# Altium schematic symbol library SMD Resistors 0603.SchLib: 112 symbols (part 1 of 2)
Pins are listed as number, name and electrical type; pins without a type are passive.

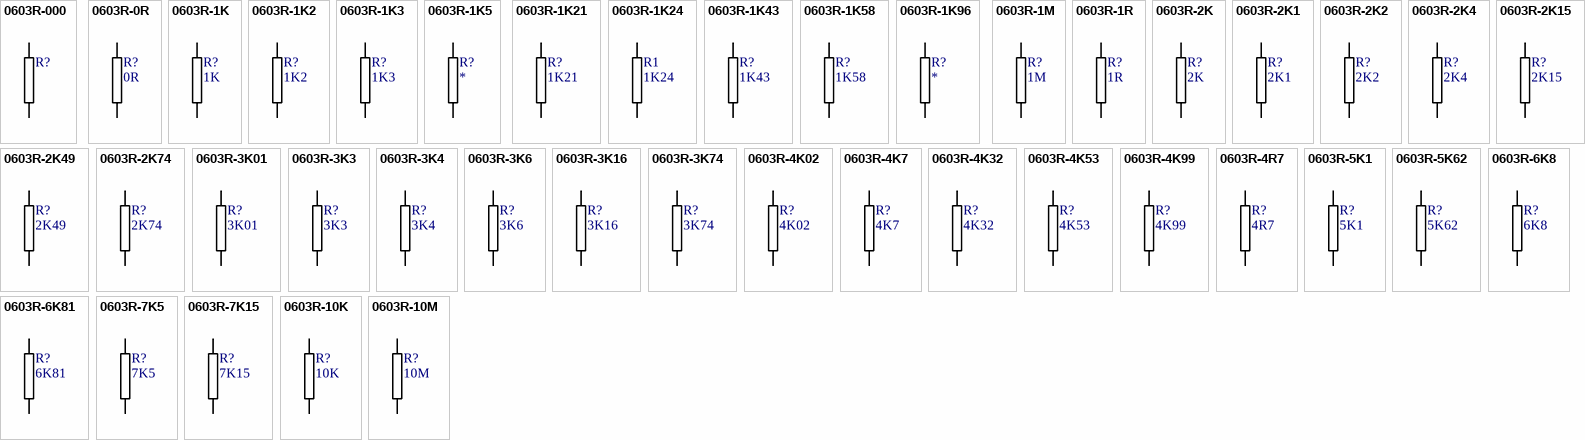
[diagram p0: symbols 0603R-000 to 0603R-10M]

## 0603R-000
designator R?
GENERIC RESISTOR 0603
footprint 0603R-GENERIC (RESISTOR 0603)
footprint 0603R-NI (RESISTOR 0603 NON INSTALLED)
pins: 1, 2

## 0603R-0R
designator R?, comment 0R
GENERIC JUMPER 0603; Manufacturer: Stackpole Electronics Inc; Manufacturer Part Number: RMC 1/16 0 G; Reel: R26; Supplier 1: Digi-Key; Supplier Part Number 1: RMCF0603ZT0R00TR-ND
footprint 0603R-0R (RESISTOR 0603)
footprint 0603R-NI (RESISTOR 0603 NON INSTALLED)
pins: 1, 2

## 0603R-1K
designator R?, comment 1K
GENERIC RESISTOR 0603; Manufacturer Part Number: RMCF 1/16 1K 1% R; Manufacturer: Stackpole Electronics Inc; Reel: R14; Supplier 1: Digi-Key; Supplier Part Number 1: RMCF0603FT1K00TR-ND
footprint 0603R-1k (RESISTOR 0603)
pins: 1, 2

## 0603R-1K2
designator R?, comment 1K2
GENERIC RESISTOR 0603; Manufacturer Part Number: RMCF 1/16 1.2K 1% R; Manufacturer: Stackpole Electronics Inc; Description: RES 1.2K OHM 1/10W 1% 0603 SMD; Reel: R75; Supplier 1: Digi-Key; Supplier Part Number 1: RMCF0603FT1K20TR-ND
footprint 0603R-GENERIC (RESISTOR 0603)
pins: 1, 2

## 0603R-1K3
designator R?, comment 1K3
GENERIC RESISTOR 0603; Supplier 1: Digi-Key; Supplier Part Number 1: RNCP0603FTD1K30CT-ND
footprint 0603R-GENERIC (RESISTOR 0603)
footprint 0603R-NI (RESISTOR 0603 NON INSTALLED)
pins: 1, 2

## 0603R-1K5
designator R?
GENERIC RESISTOR 0603; Manufacturer Part Number: RMCF 1/16 15K 1% R; Manufacturer: Stackpole Electronics Inc; Tolerance: ±1%; Resistance In Ohms: 15.0K; Power (Watts): 0.1W, 1/10W; Temperature Coefficient: ±100ppm/°C; Description: RES 15K OHM 1/10W 1% 0603 SMD; Supplier 1: Digi-Key; Supplier Part Number 1: RMCF1/1615KFRTR-ND; Supplier: Digi-Key; Supplier Part Number: RMCF1/1615KFRTR-ND; Packaging: Tape & Reel (TR); Category: Resistors; Case: 0603 (1608 metric); Composition: Thick Film; Lead Style: Surface Mount (SMD - SMT); RoHS: RoHS Compliant
footprint 0603R-1k5 (RESISTOR 0603)
pins: 1, 2

## 0603R-1K21
designator R?, comment 1K21
GENERIC RESISTOR 0603; Manufacturer Part Number: RMCF 1/16 1.21K 1% R; Manufacturer: Stackpole Electronics Inc; Temperature Coefficient: ±100ppm/°C; Resistance In Ohms: 1.21K; Power (Watts): 0.1W, 1/10W; Tolerance: ±1%; Description: RES 1.21K OHM 1/10W 1% 0603 SMD; Supplier 1: Digi-Key; Supplier Part Number 1: RMCF1/161.21KFRTR-ND; Composition: Thick Film; Packaging: Tape & Reel (TR); RoHS: RoHS Compliant; Category: Resistors; Case: 0603 (1608 metric); Lead Style: Surface Mount (SMD - SMT); Supplier: Digi-Key; Supplier Part Number: RMCF1/161.21KFRTR-ND
footprint 0603R-GENERIC (RESISTOR 0603)
footprint 0603R-NI (RESISTOR 0603 NON INSTALLED)
pins: 1, 2

## 0603R-1K24
designator R1, comment 1K24
GENERIC RESISTOR 0603; Supplier 1: Digi-Key; Supplier Part Number 1: RMCF0603FT1K24CT-ND
footprint 0603R-GENERIC (RESISTOR 0603)
pins: 1, 2

## 0603R-1K43
designator R?, comment 1K43
GENERIC RESISTOR 0603; Manufacturer Part Number: RMC 1/16 1.43K 1% R; Manufacturer: Stackpole Electronics Inc; Description: RES TF 1/10W 1.43K OHM 1% 0603; Tolerance: ±1%; Temperature Coefficient: ±100ppm/°C; Power (Watts): 0.1W, 1/10W; Resistance In Ohms: 1.43K; Supplier 1: Digi-Key; Supplier Part Number 1: RMC1/161.43KFR-ND; Supplier: Digi-Key; Category: Resistors; Supplier Part Number: RMC1/161.43KFR-ND; Lead Style: Surface Mount (SMD - SMT); Packaging: Tape & Reel (TR); Composition: Thick Film; RoHS: RoHS non-compliant; Case: 0603 (1608 metric)
footprint 0603R-GENERIC (RESISTOR 0603)
footprint 0603R-NI (RESISTOR 0603 NON INSTALLED)
pins: 1, 2

## 0603R-1K58
designator R?, comment 1K58
GENERIC RESISTOR 0603; REEL: R31; Supplier 1: Digi-Key; Supplier Part Number 1: 311-1.58KHRTR-ND
footprint 0603R-1k5 (RESISTOR 0603)
pins: 1, 2

## 0603R-1K96
designator R?
GENERIC RESISTOR 0603; Manufacturer Part Number: RMCF 1/16 15K 1% R; Manufacturer: Stackpole Electronics Inc; Tolerance: ±1%; Resistance In Ohms: 15.0K; Power (Watts): 0.1W, 1/10W; Temperature Coefficient: ±100ppm/°C; Description: RES 15K OHM 1/10W 1% 0603 SMD; Supplier 1: Digi-Key; Supplier Part Number 1: RMCF1/1615KFRTR-ND; Supplier: Digi-Key; Supplier Part Number: RMCF1/1615KFRTR-ND; Packaging: Tape & Reel (TR); Category: Resistors; Case: 0603 (1608 metric); Composition: Thick Film; Lead Style: Surface Mount (SMD - SMT); RoHS: RoHS Compliant
footprint 0603R-GENERIC (RESISTOR 0603)
pins: 1, 2

## 0603R-1M
designator R?, comment 1M
GENERIC RESISTOR 0603; Manufacturer: Stackpole Electronics Inc; Manufacturer Part Number: RMCF 1/16 1M 1% R; Description: RES 1M OHM 1/10W 1% 0603 SMD; Power (Watts): 0.1W, 1/10W; Temperature Coefficient: ±100ppm/°C; Resistance In Ohms: 1.00M; Tolerance: ±1%; REEL: R51; Supplier: Digi-Key; Supplier Part Number: RMCF1/161MFRTR-ND; Category: Resistors; Lead Style: Surface Mount (SMD - SMT); Case: 0603 (1608 metric); RoHS: RoHS Compliant; Composition: Thick Film; Packaging: Tape & Reel (TR); Supplier 1: Digi-Key; Supplier Part Number 1: RMCF0603FT1M00TR-ND
footprint 0603R-GENERIC (RESISTOR 0603)
footprint 0603R-NI (RESISTOR 0603 NON INSTALLED)
pins: 1, 2

## 0603R-1R
designator R?, comment 1R
GENERIC RESISTOR 0603; Manufacturer Part Number: CSR 1/8 1 1% I; Manufacturer: Stackpole Electronics Inc; Description: RES 1 OHM 1/8W 1% 0603 SMD; Temperature Coefficient: ±300ppm/°C; Resistance In Ohms: 1.00; Power (Watts): 0.125W, 1/8W; Tolerance: ±1%; REEL: R50; Lead Style: Surface Mount (SMD - SMT); Supplier: Digi-Key; Supplier Part Number: CSR1/81FITR-ND; Composition: Current Sense, Thick Film; Category: Resistors; Packaging: Tape & Reel (TR); RoHS: RoHS Compliant; Case: 0603 (1608 metric); Supplier 1: Digi-Key; Supplier Part Number 1: CSR0603FK1R00DKR-ND
footprint 0603R-GENERIC (RESISTOR 0603)
footprint 0603R-NI (RESISTOR 0603 NON INSTALLED)
pins: 1, 2

## 0603R-2K
designator R?, comment 2K
GENERIC RESISTOR 0603; Manufacturer Part Number: RMCF 1/16 2K 1% R; Manufacturer: Stackpole Electronics Inc; Temperature Coefficient: ±100ppm/°C; Power (Watts): 0.1W, 1/10W; Tolerance: ±1%; Description: RES 2K OHM 1/10W 1% 0603 SMD; Resistance In Ohms: 2.00K; Reel: R9; Supplier 1: Digi-Key; Supplier Part Number 1: RMCF1/162KFRTR-ND; Supplier: Digi-Key; Supplier Part Number: RMCF1/162KFRTR-ND; RoHS: RoHS Compliant; Composition: Thick Film; Case: 0603 (1608 metric); Packaging: Tape & Reel (TR); Lead Style: Surface Mount (SMD - SMT); Category: Resistors
footprint 0603R-GENERIC (RESISTOR 0603)
pins: 1, 2

## 0603R-2K1
designator R?, comment 2K1
GENERIC RESISTOR 0603; Manufacturer Part Number: RMC 1/16 2.1K 1% R; Manufacturer: Stackpole Electronics Inc; Description: RES TF 1/10W 2.1K OHM 1% 0603; Reel: R76; Supplier 1: Digi-Key; Supplier Part Number 1: RMCF0603FT2K10-ND
footprint 0603R-GENERIC (RESISTOR 0603)
pins: 1, 2

## 0603R-2K2
designator R?, comment 2K2
GENERIC RESISTOR 0603; Manufacturer Part Number: RMC 1/16 2.2K 1% R; Manufacturer: Stackpole Electronics Inc; Description: RES TF 1/10W 2.2K OHM 1% 0603; REEL: R88; Supplier 1: Digi-Key; Supplier Part Number 1: RMCF0603FT2K20TR-ND
footprint 0603R-2K2 (RESISTOR 0603)
pins: 1, 2

## 0603R-2K4
designator R?, comment 2K4
GENERIC RESISTOR 0603; REEL: R34; Supplier 1: Digi-Key; Supplier Part Number 1: RMCF0603FT2K40TR-ND
footprint 0603R-GENERIC (RESISTOR 0603)
footprint 0603R-NI (RESISTOR 0603 NON INSTALLED)
pins: 1, 2

## 0603R-2K15
designator R?, comment 2K15
GENERIC RESISTOR 0603; Supplier 1: Digi-Key; Supplier Part Number 1: RMCF0603FG2K15-ND
footprint 0603R-GENERIC (RESISTOR 0603)
footprint 0603R-NI (RESISTOR 0603 NON INSTALLED)
pins: 1, 2

## 0603R-2K49
designator R?, comment 2K49
GENERIC RESISTOR 0603; Manufacturer: Stackpole Electronics Inc; Manufacturer Part Number: RMCF 1/16 2.49K 1% R; Description: RES 2.49K OHM 1/10W 1% 0603 SMD; Power (Watts): 0.1W, 1/10W; Tolerance: ±1%; Temperature Coefficient: ±100ppm/°C; Resistance In Ohms: 2.49K; REEL: R83; Supplier Part Number: RMCF1/162.49KFRTR-ND; Category: Resistors; Supplier: Digi-Key; Packaging: Tape & Reel (TR); Composition: Thick Film; Lead Style: Surface Mount (SMD - SMT); RoHS: RoHS Compliant; Case: 0603 (1608 metric); Supplier 1: Digi-Key; Supplier Part Number 1: RMCF0603FT2K49TR-ND
footprint 0603R-GENERIC (RESISTOR 0603)
footprint 0603R-NI (RESISTOR 0603 NON INSTALLED)
pins: 1, 2

## 0603R-2K74
designator R?, comment 2K74
GENERIC RESISTOR 0603; Description: RES 2.74K OHM 1/10W 1% 0603 SMD; REEL: R53; Supplier 1: Digi-Key; Supplier Part Number 1: RMCF1/162.74KFRTR-ND
footprint 0603R-generic (RESISTOR 0603)
pins: 1, 2

## 0603R-3K01
designator R?, comment 3K01
GENERIC RESISTOR 0603; Manufacturer: Stackpole Electronics Inc; Manufacturer Part Number: RMCF 1/16 3.01K 1% R; Description: RES 3.01K OHM 1/10W 1% 0603 SMD; Resistance In Ohms: 3.01K; Temperature Coefficient: ±100ppm/°C; Tolerance: ±1%; Power (Watts): 0.1W, 1/10W; REEL: R35; RoHS: RoHS Compliant; Packaging: Tape & Reel (TR); Supplier Part Number: RMCF1/163.01KFRTR-ND; Lead Style: Surface Mount (SMD - SMT); Composition: Thick Film; Case: 0603 (1608 metric); Category: Resistors; Supplier: Digi-Key; Supplier 1: Digi-Key; Supplier Part Number 1: RMCF0603FT3K01TR-ND
footprint 0603R-GENERIC (RESISTOR 0603)
footprint 0603R-NI (RESISTOR 0603 NON INSTALLED)
pins: 1, 2

## 0603R-3K3
designator R?, comment 3K3
GENERIC RESISTOR 0603; Supplier 1: Digi-Key; Supplier Part Number 1: RMCF0603FT3K30CT-ND
footprint 0603R-GENERIC (RESISTOR 0603)
pins: 1, 2

## 0603R-3K4
designator R?, comment 3K4
GENERIC RESISTOR 0603; Manufacturer Part Number: RMCF 1/16 3.4K 1% R; Manufacturer: Stackpole Electronics Inc; Description: RES 3.4K OHM 1/10W 1% 0603 SMD; Reel: R77; Supplier 1: Digi-Key; Supplier Part Number 1: RMCF0603FT3K40TR-ND
footprint 0603R-GENERIC (RESISTOR 0603)
pins: 1, 2

## 0603R-3K6
designator R?, comment 3K6
GENERIC RESISTOR 0603; Manufacturer: Stackpole Electronics Inc; Manufacturer Part Number: RMC 1/16 3.6K 5% R; Description: RES TF 1/10W 3.6K OHM 5% 0603; Supplier 1: Digi-Key; Supplier Part Number 1: RMC1/163.6KJR-ND
footprint 0603R-GENERIC (RESISTOR 0603)
pins: 1, 2

## 0603R-3K16
designator R?, comment 3K16
GENERIC RESISTOR 0603; Supplier 1: Digi-Key; Supplier Part Number 1: RMCF0603FT3K16TR-ND
footprint 0603R-GENERIC (RESISTOR 0603)
footprint 0603R-NI (RESISTOR 0603 NON INSTALLED)
pins: 1, 2

## 0603R-3K74
designator R?, comment 3K74
GENERIC RESISTOR 0603; Manufacturer Part Number: RMCF 1/16 3.74K 1% R; Manufacturer: Stackpole Electronics Inc; Resistance In Ohms: 3.74K; Temperature Coefficient: ±100ppm/°C; Description: RES 3.74K OHM 1/10W 1% 0603 SMD; Power (Watts): 0.1W, 1/10W; Tolerance: ±1%; Supplier 1: Digi-Key; Supplier Part Number 1: RMCF1/163.74KFR-ND; Category: Resistors; Packaging: Tape & Reel (TR); RoHS: RoHS Compliant; Lead Style: Surface Mount (SMD - SMT); Composition: Thick Film; Case: 0603 (1608 metric); Supplier Part Number: RMCF1/163.74KFR-ND; Supplier: Digi-Key
footprint 0603R-GENERIC (RESISTOR 0603)
footprint 0603R-NI (RESISTOR 0603 NON INSTALLED)
pins: 1, 2

## 0603R-4K02
designator R?, comment 4K02
GENERIC RESISTOR 0603; Manufacturer: Stackpole Electronics Inc; Manufacturer Part Number: RMCF 1/16 4.02K 1% R; Tolerance: ±1%; Power (Watts): 0.1W, 1/10W; Temperature Coefficient: ±100ppm/°C; Description: RES 4.02K OHM 1/10W 1% 0603 SMD; Resistance In Ohms: 4.02K; REEL: R38; Composition: Thick Film; Supplier Part Number: RMCF1/164.02KFRTR-ND; Supplier: Digi-Key; Case: 0603 (1608 metric); Packaging: Tape & Reel (TR); RoHS: RoHS Compliant; Category: Resistors; Lead Style: Surface Mount (SMD - SMT); Supplier 1: Digi-Key; Supplier Part Number 1: RMCF0603FT4K02TR-ND
footprint 0603R-GENERIC (RESISTOR 0603)
footprint 0603R-NI (RESISTOR 0603 NON INSTALLED)
pins: 1, 2

## 0603R-4K7
designator R?, comment 4K7
GENERIC RESISTOR 0603; Manufacturer: Stackpole Electronics Inc; Manufacturer Part Number: RMCF 1/16 4.7K 1% R; Description: RES 4.7K OHM 1/10W 1% 0603 SMD; Reel: R23; Supplier 1: Digi-Key; Supplier Part Number 1: RMCF0603FT4K70TR-ND
footprint 0603R-4K7 (RESISTOR 0603)
pins: 1, 2

## 0603R-4K32
designator R?, comment 4K32
GENERIC RESISTOR 0603; Supplier 1: Digi-Key; Supplier Part Number 1: RMCF0603FT4K32TR-ND
footprint 0603R-GENERIC (RESISTOR 0603)
footprint 0603R-NI (RESISTOR 0603 NON INSTALLED)
pins: 1, 2

## 0603R-4K53
designator R?, comment 4K53
GENERIC RESISTOR 0603; Manufacturer Part Number: RMCF 1/16 4.53K 1% R; Manufacturer: Stackpole Electronics Inc; Description: RES 4.53K OHM 1/10W 1% 0603 SMD; Temperature Coefficient: ±100ppm/°C; Power (Watts): 0.1W, 1/10W; Resistance In Ohms: 4.53K; Tolerance: ±1%; Supplier 1: Digi-Key; Supplier Part Number 1: RMCF1/164.53KFRTR-ND; RoHS: RoHS Compliant; Composition: Thick Film; Lead Style: Surface Mount (SMD - SMT); Category: Resistors; Supplier Part Number: RMCF1/164.53KFRTR-ND; Supplier: Digi-Key; Packaging: Tape & Reel (TR); Case: 0603 (1608 metric)
footprint 0603R-GENERIC (RESISTOR 0603)
footprint 0603R-NI (RESISTOR 0603 NON INSTALLED)
pins: 1, 2

## 0603R-4K99
designator R?, comment 4K99
GENERIC RESISTOR 0603; Supplier 1: Digi-Key; Supplier Part Number 1: RMCF0603FT4K99TR-ND
footprint 0603R-GENERIC (RESISTOR 0603)
footprint 0603R-NI (RESISTOR 0603 NON INSTALLED)
pins: 1, 2

## 0603R-4R7
designator R?, comment 4R7
GENERIC RESISTOR 0603; Manufacturer: Stackpole Electronics Inc; Manufacturer Part Number: RMC 1/16 4.7 5% G; Description: RES TF 1/10W 4.7 OHM 5% 0603; Supplier 1: Digi-Key; Supplier Part Number 1: RMC1/164.7JG-ND
footprint 0603R-GENERIC (RESISTOR 0603)
pins: 1, 2

## 0603R-5K1
designator R?, comment 5K1
GENERIC RESISTOR 0603; Manufacturer Part Number: RMCF 1/16 15K 1% R; Manufacturer: Stackpole Electronics Inc; Tolerance: ±1%; Resistance In Ohms: 15.0K; Power (Watts): 0.1W, 1/10W; Temperature Coefficient: ±100ppm/°C; Description: RES 15K OHM 1/10W 1% 0603 SMD; Supplier 1: Digi-Key; Supplier Part Number 1: RMCF1/1615KFRTR-ND; Supplier: Digi-Key; Supplier Part Number: RMCF1/1615KFRTR-ND; Packaging: Tape & Reel (TR); Category: Resistors; Case: 0603 (1608 metric); Composition: Thick Film; Lead Style: Surface Mount (SMD - SMT); RoHS: RoHS Compliant
footprint 0603R-GENERIC (RESISTOR 0603)
pins: 1, 2

## 0603R-5K62
designator R?, comment 5K62
GENERIC RESISTOR 0603; REEL: R39; Supplier 1: Digi-Key; Supplier Part Number 1: RMCF0603FT5K62TR-ND
footprint 0603R-GENERIC (RESISTOR 0603)
pins: 1, 2

## 0603R-6K8
designator R?, comment 6K8
GENERIC RESISTOR 0603; Manufacturer Part Number: RMCF 1/16 6.8K 1% R; Manufacturer: Stackpole Electronics Inc; Temperature Coefficient: ±100ppm/°C; Power (Watts): 0.1W, 1/10W; Tolerance: ±1%; Resistance In Ohms: 6.80K; Description: RES 6.8K OHM 1/10W 1% 0603 SMD; Supplier 1: Digi-Key; Supplier Part Number 1: RMCF1/166.8KFRTR-ND; Lead Style: Surface Mount (SMD - SMT); Supplier: Digi-Key; Packaging: Tape & Reel (TR); RoHS: RoHS Compliant; Case: 0603 (1608 metric); Category: Resistors; Composition: Thick Film; Supplier Part Number: RMCF1/166.8KFRTR-ND
footprint 0603R-GENERIC (RESISTOR 0603)
footprint 0603R-NI (RESISTOR 0603 NON INSTALLED)
pins: 1, 2

## 0603R-6K81
designator R?, comment 6K81
GENERIC RESISTOR 0603; Manufacturer Part Number: RMCF 1/16 6.81K 1% R; Manufacturer: Stackpole Electronics Inc; Power (Watts): 0.1W, 1/10W; Resistance In Ohms: 6.81K; Description: RES 6.81K OHM 1/10W 1% 0603 SMD; Temperature Coefficient: ±100ppm/°C; Tolerance: ±1%; Supplier 1: Digi-Key; Supplier Part Number 1: RMCF1/166.81KFRTR-ND; Category: Resistors; RoHS: RoHS Compliant; Supplier Part Number: RMCF1/166.81KFRTR-ND; Composition: Thick Film; Supplier: Digi-Key; Case: 0603 (1608 metric); Packaging: Tape & Reel (TR); Lead Style: Surface Mount (SMD - SMT)
footprint 0603R-GENERIC (RESISTOR 0603)
footprint 0603R-NI (RESISTOR 0603 NON INSTALLED)
pins: 1, 2

## 0603R-7K5
designator R?, comment 7K5
GENERIC RESISTOR 0603; Supplier 1: Digi-Key; Supplier Part Number 1: RMCF0603JT7K50DKR-ND
footprint 0603R-GENERIC (RESISTOR 0603)
footprint 0603R-NI (RESISTOR 0603 NON INSTALLED)
pins: 1, 2

## 0603R-7K15
designator R?, comment 7K15
GENERIC RESISTOR 0603; Supplier 1: Digi-Key; Supplier Part Number 1: RMCF0603FT7K15TR-ND
footprint 0603R-GENERIC (RESISTOR 0603)
footprint 0603R-NI (RESISTOR 0603 NON INSTALLED)
pins: 1, 2

## 0603R-10K
designator R?, comment 10K
GENERIC RESISTOR 0603; Manufacturer: Stackpole Electronics Inc; Manufacturer Part Number: RMCF 1/16 10K 1% R; Tolerance: ±1%; Power (Watts): 0.1W, 1/10W; Temperature Coefficient: ±100ppm/°C; Description: RES 10K OHM 1/10W 1% 0603 SMD; Resistance In Ohms: 10.0K; Reel: R21; Category: Resistors; Supplier Part Number: RMCF1/1610KFRDKR-ND; Lead Style: Surface Mount (SMD - SMT); RoHS: RoHS Compliant; Packaging: Digi-Reel®; Case: 0603 (1608 metric); Composition: Thick Film; Supplier: Digi-Key; Supplier 1: Digi-Key; Supplier Part Number 1: RMCF0603FT10K0DKR-ND
footprint 0603R-10K (RESISTOR 0603)
pins: 1, 2

## 0603R-10M
designator R?, comment 10M
GENERIC RESISTOR 0603; Manufacturer Part Number: RMCF 1/16 10M 5% R; Manufacturer: Stackpole Electronics Inc; Reel: R15; Tolerance: ±5%; Temperature Coefficient: ±350ppm/°C; Power (Watts): 0.1W, 1/10W; Resistance In Ohms: 10.0M; Description: RES 10M OHM 1/10W 5% 0603 SMD; Packaging: Tape & Reel (TR); Lead Style: Surface Mount (SMD - SMT); Case: 0603 (1608 metric); Features: -; Composition: Thick Film; RoHS: RoHS Compliant; Supplier: Digi-Key; Supplier Part Number: RMCF1/1610MJRTR-ND; Category: Resistors; Supplier 1: Digi-Key; Supplier Part Number 1: RMCF0603FT10M0DKR-ND
footprint 0603R-GENERIC (Footprint not found)
pins: 1, 2

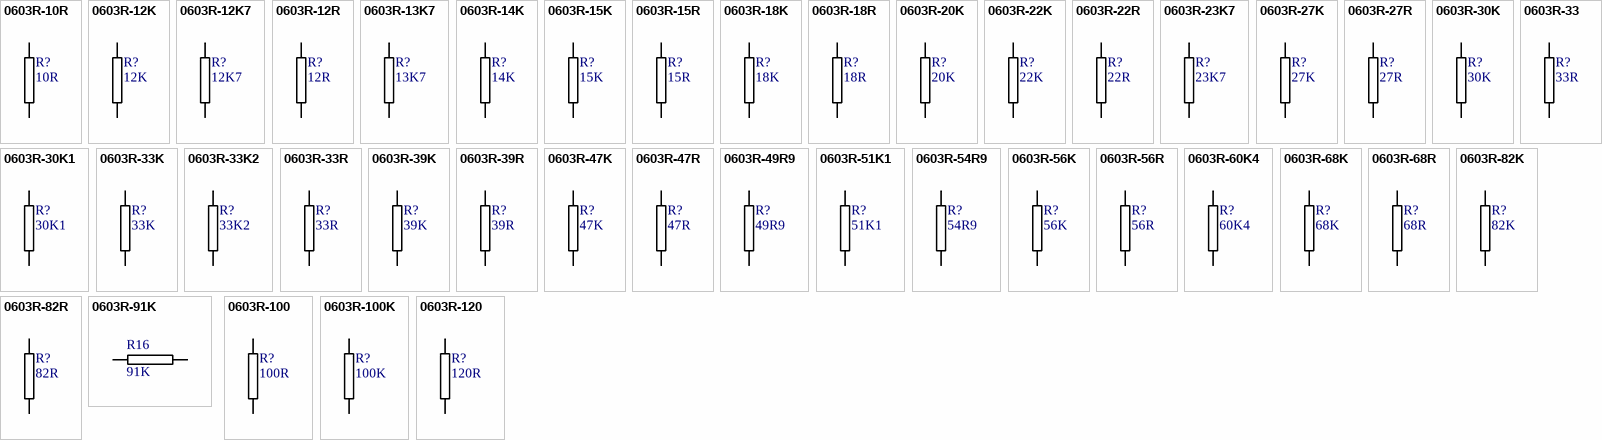
[diagram p1: symbols 0603R-10R to 0603R-120]

## 0603R-10R
designator R?, comment 10R
GENERIC RESISTOR 0603; Manufacturer Part Number: RMCF 1/16 10 1% R; Manufacturer: Stackpole Electronics Inc; Description: RES 10 OHM 1/10W 1% 0603 SMD; Reel: R48; Resistance In Ohms: 10.0; Tolerance: ±1%; Temperature Coefficient: ±100ppm/°C; Power (Watts): 0.1W, 1/10W; Supplier: Digi-Key; Supplier Part Number: RMCF1/1610FRDKR-ND; Composition: Thick Film; RoHS: RoHS Compliant; Category: Resistors; Lead Style: Surface Mount (SMD - SMT); Packaging: Digi-Reel®; Case: 0603 (1608 metric); Supplier 1: Digi-Key; Supplier Part Number 1: RMCF0603FT10R0TR-ND
footprint 0603R-10 (RESISTOR 0603)
pins: 1, 2

## 0603R-12K
designator R?, comment 12K
GENERIC RESISTOR 0603; Manufacturer: Stackpole Electronics Inc; Manufacturer Part Number: RMCF 1/16 12K 1% R; Temperature Coefficient: ±100ppm/°C; Resistance In Ohms: 12.0K; Power (Watts): 0.1W, 1/10W; Description: RES 12K OHM 1/10W 1% 0603 SMD; Tolerance: ±1%; Category: Resistors; Packaging: Cut Tape (CT); Composition: Thick Film; RoHS: RoHS Compliant; Lead Style: Surface Mount (SMD - SMT); Supplier Part Number: RMCF1/1612KFRCT-ND; Supplier: Digi-Key; Case: 0603 (1608 metric); Supplier 1: Digi-Key; Supplier Part Number 1: RMCF1/1612KFRCT-ND
footprint 0603R-12K (RESISTOR 0603)
pins: 1, 2

## 0603R-12K7
designator R?, comment 12K7
GENERIC RESISTOR 0603; Supplier 1: Digi-Key; Supplier Part Number 1: RMCF1/1612.7KFR-ND
footprint 0603R-GENERIC (RESISTOR 0603)
footprint 0603R-NI (RESISTOR 0603 NON INSTALLED)
pins: 1, 2

## 0603R-12R
designator R?, comment 12R
GENERIC RESISTOR 0603; Manufacturer Part Number: RMCF 1/16 12 1% R; Manufacturer: Stackpole Electronics Inc; Power (Watts): 0.1W, 1/10W; Resistance In Ohms: 12.0; Description: RES 12 OHM 1/10W 1% 0603 SMD; Temperature Coefficient: ±100ppm/°C; Tolerance: ±1%; Packaging: Tape & Reel (TR); Supplier: Digi-Key; Case: 0603 (1608 metric); Supplier Part Number: RMCF1/1612FR-ND; Composition: Thick Film; Category: Resistors; Lead Style: Surface Mount (SMD - SMT); RoHS: RoHS Compliant; Supplier 1: Digi-Key; Supplier Part Number 1: RMCF1/1612FR-ND
footprint 0603R-12 (RESISTOR 0603)
pins: 1, 2

## 0603R-13K7
designator R?, comment 13K7
GENERIC RESISTOR 0603; Supplier 1: Digi-Key; Supplier Part Number 1: RMCF0603FT13K7-ND
footprint 0603R-GENERIC (RESISTOR 0603)
footprint 0603R-NI (RESISTOR 0603 NON INSTALLED)
pins: 1, 2

## 0603R-14K
designator R?, comment 14K
GENERIC RESISTOR 0603; Supplier 1: Digi-Key; Supplier Part Number 1: RNCP0603FTD14K0DKR-ND
footprint 0603R-GENERIC (RESISTOR 0603)
footprint 0603R-NI (RESISTOR 0603 NON INSTALLED)
pins: 1, 2

## 0603R-15K
designator R?, comment 15K
GENERIC RESISTOR 0603; Manufacturer Part Number: RMCF 1/16 15K 1% R; Manufacturer: Stackpole Electronics Inc; Tolerance: ±1%; Resistance In Ohms: 15.0K; Power (Watts): 0.1W, 1/10W; Temperature Coefficient: ±100ppm/°C; Description: RES 15K OHM 1/10W 1% 0603 SMD; Supplier 1: Digi-Key; Supplier Part Number 1: RMCF1/1615KFRTR-ND; Supplier: Digi-Key; Supplier Part Number: RMCF1/1615KFRTR-ND; Packaging: Tape & Reel (TR); Category: Resistors; Case: 0603 (1608 metric); Composition: Thick Film; Lead Style: Surface Mount (SMD - SMT); RoHS: RoHS Compliant
footprint 0603R-15K (RESISTOR 0603)
pins: 1, 2

## 0603R-15R
designator R?, comment 15R
GENERIC RESISTOR 0603; Manufacturer: Stackpole Electronics Inc; Manufacturer Part Number: RMCF 1/16 15 1% R; Resistance In Ohms: 15.0; Tolerance: ±1%; Description: RES 15 OHM 1/10W 1% 0603 SMD; Temperature Coefficient: ±100ppm/°C; Power (Watts): 0.1W, 1/10W; Supplier 1: Digi-Key; Supplier Part Number 1: RMCF1/1615FRTR-ND; Category: Resistors; Supplier Part Number: RMCF1/1615FRTR-ND; Supplier: Digi-Key; Case: 0603 (1608 metric); Packaging: Tape & Reel (TR); RoHS: RoHS Compliant; Lead Style: Surface Mount (SMD - SMT); Composition: Thick Film
footprint 0603R-15 (RESISTOR 0603)
pins: 1, 2

## 0603R-18K
designator R?, comment 18K
GENERIC RESISTOR 0603; Manufacturer Part Number: RMC 1/16 18K 1% R; Manufacturer: Stackpole Electronics Inc; Tolerance: ±1%; Temperature Coefficient: ±100ppm/°C; Power (Watts): 0.1W, 1/10W; Resistance In Ohms: 18.0K; Description: RES TF 1/10W 18K OHM 1% 0603; Supplier 1: Digi-Key; Supplier Part Number 1: RMC1/1618KFR-ND; Lead Style: Surface Mount (SMD - SMT); RoHS: RoHS non-compliant; Supplier Part Number: RMC1/1618KFR-ND; Composition: Thick Film; Case: 0603 (1608 metric); Packaging: Tape & Reel (TR); Category: Resistors; Supplier: Digi-Key
footprint 0603R-18K (RESISTOR 0603)
pins: 1, 2

## 0603R-18R
designator R?, comment 18R
GENERIC RESISTOR 0603; Manufacturer Part Number: RMC 1/16 18 1% R; Manufacturer: Stackpole Electronics Inc; Power (Watts): 0.1W, 1/10W; Resistance In Ohms: 18.0; Description: RES TF 1/10W 18 OHM 1% 0603; Temperature Coefficient: ±100ppm/°C; Tolerance: ±1%; Supplier 1: Digi-Key; Supplier Part Number 1: RMC1/1618FR-ND; Category: Resistors; Composition: Thick Film; Lead Style: Surface Mount (SMD - SMT); Supplier: Digi-Key; Packaging: Tape & Reel (TR); Case: 0603 (1608 metric); RoHS: RoHS non-compliant; Supplier Part Number: RMC1/1618FR-ND
footprint 0603R-18 (RESISTOR 0603)
pins: 1, 2

## 0603R-20K
designator R?, comment 20K
GENERIC RESISTOR 0603; Manufacturer: Stackpole Electronics Inc; Manufacturer Part Number: RNCF 16 T2 20K .1% R; Description: RES 20K OHM 1/16W .1% 0603 SMD; Supplier 1: Digi-Key; Supplier Part Number 1: RNCF16T220KBRCT-ND; Category: Resistors; Supplier Part Number: RNCF16T220KBRCT-ND; Supplier: Digi-Key
footprint 0603R-GENERIC (RESISTOR 0603)
footprint 0603R-NI (RESISTOR 0603 NON INSTALLED)
pins: 1, 2

## 0603R-22K
designator R?, comment 22K
GENERIC RESISTOR 0603; Manufacturer: Stackpole Electronics Inc; Manufacturer Part Number: RMC 1/16 22K 1% R; Description: RES TF 1/10W 22K OHM 1% 0603; Tolerance: ±1%; Resistance In Ohms: 22.0K; Power (Watts): 0.1W, 1/10W; Temperature Coefficient: ±100ppm/°C; Supplier 1: Digi-Key; Supplier Part Number 1: RMC1/1622KFR-ND; Category: Resistors; Case: 0603 (1608 metric); RoHS: RoHS Compliant; Supplier Part Number: RMC1/1622KFR-ND; Packaging: Tape & Reel (TR); Supplier: Digi-Key; Composition: Thick Film; Lead Style: Surface Mount (SMD - SMT)
footprint 0603R-22K (RESISTOR 0603)
pins: 1, 2

## 0603R-22R
designator R?, comment 22R
GENERIC RESISTOR 0603; Manufacturer Part Number: RMC 1/16 22 1% R; Manufacturer: Stackpole Electronics Inc; Tolerance: ±1%; Description: RES TF 1/10W 22 OHM 1% 0603; Power (Watts): 0.1W, 1/10W; Temperature Coefficient: ±100ppm/°C; Resistance In Ohms: 22.0; Supplier 1: Digi-Key; Supplier Part Number 1: RMC1/1622FR-ND; Supplier: Digi-Key; Case: 0603 (1608 metric); Supplier Part Number: RMC1/1622FR-ND; Category: Resistors; RoHS: RoHS Compliant; Composition: Thick Film; Packaging: Tape & Reel (TR); Lead Style: Surface Mount (SMD - SMT)
footprint 0603R-22 (RESISTOR 0603)
pins: 1, 2

## 0603R-23K7
designator R?, comment 23K7
GENERIC RESISTOR 0603; Supplier 1: Digi-Key; Supplier Part Number 1: RMCF0603FT23K7TR-ND
footprint 0603R-GENERIC (RESISTOR 0603)
footprint 0603R-NI (RESISTOR 0603 NON INSTALLED)
pins: 1, 2

## 0603R-27K
designator R?, comment 27K
GENERIC RESISTOR 0603; Manufacturer: Stackpole Electronics Inc; Manufacturer Part Number: RMC 1/16 27K 1% R; Resistance In Ohms: 27.0K; Temperature Coefficient: ±100ppm/°C; Tolerance: ±1%; Power (Watts): 0.1W, 1/10W; Description: RES TF 1/10W 27K OHM 1% 0603; Supplier 1: Digi-Key; Supplier Part Number 1: RMC1/1627KFR-ND; Case: 0603 (1608 metric); Supplier: Digi-Key; Packaging: Tape & Reel (TR); RoHS: RoHS Compliant; Category: Resistors; Composition: Thick Film; Supplier Part Number: RMC1/1627KFR-ND; Lead Style: Surface Mount (SMD - SMT)
footprint 0603R-27K (RESISTOR 0603)
pins: 1, 2

## 0603R-27R
designator R?, comment 27R
GENERIC RESISTOR 0603; Manufacturer: Stackpole Electronics Inc; Manufacturer Part Number: RMC 1/16 27 1% R; Description: RES TF 1/10W 27 OHM 1% 0603; Power (Watts): 0.1W, 1/10W; Resistance In Ohms: 27.0; Tolerance: ±1%; Temperature Coefficient: ±100ppm/°C; Supplier 1: Digi-Key; Supplier Part Number 1: RMC1/1627FR-ND; Packaging: Tape & Reel (TR); Supplier Part Number: RMC1/1627FR-ND; Lead Style: Surface Mount (SMD - SMT); Case: 0603 (1608 metric); Category: Resistors; RoHS: RoHS Compliant; Supplier: Digi-Key; Composition: Thick Film
footprint 0603R-27 (RESISTOR 0603)
pins: 1, 2

## 0603R-30K
designator R?, comment 30K
GENERIC RESISTOR 0603; Supplier 1: Digi-Key; Supplier Part Number 1: RMCF0603JT30K0TR-ND
footprint 0603R-GENERIC (RESISTOR 0603)
footprint 0603R-NI (RESISTOR 0603 NON INSTALLED)
pins: 1, 2

## 0603R-30K1
designator R?, comment 30K1
GENERIC RESISTOR 0603; Manufacturer Part Number: RNCS 16 T9 30.1K 0.1% I; Manufacturer: Stackpole Electronics Inc; Power (Watts): 0.063W, 1/16W; Description: RES 1/16W 30.1K OHM 0.1% 0603; Resistance In Ohms: 30.1K; Tolerance: ±0.1%; Temperature Coefficient: ±25ppm/°C; Reel: R28; Supplier 1: Digi-Key; Supplier Part Number 1: RNCS16T930.1KBITR-ND; Supplier Part Number: RNCS16T930.1KBITR-ND; Supplier: Digi-Key; RoHS: RoHS Compliant; Lead Style: Surface Mount (SMD - SMT); Case: 0603 (1608 metric); Category: Resistors; Packaging: Tape & Reel (TR); Composition: Thin Film
footprint 0603R-GENERIC (RESISTOR 0603)
pins: 1, 2

## 0603R-33
designator R?, comment 33R
GENERIC RESISTOR 0603; Manufacturer Part Number: RMC 1/16 33 1% G; Manufacturer: Stackpole Electronics Inc; Description: RES TF 1/10W 33 OHM 1% 0603; Resistance In Ohms: 33.0; Power (Watts): 0.1W, 1/10W; Temperature Coefficient: ±100ppm/°C; Tolerance: ±1%; Reel: R18; Supplier: Digi-Key; Lead Style: Surface Mount (SMD - SMT); Composition: Thick Film; Packaging: Tape & Reel (TR); Supplier Part Number: RMC1/1633FG-ND; Case: 0603 (1608 metric); RoHS: RoHS Compliant; Category: Resistors; Supplier 1: Digi-Key; Supplier Part Number 1: RMCF0603FT33R0TR-ND
footprint 0603R-33 (RESISTOR 0603)
pins: 1, 2

## 0603R-33K
designator R?, comment 33K
GENERIC RESISTOR 0603; Manufacturer Part Number: RMC 1/16 33K 1% G; Manufacturer: Stackpole Electronics Inc; Temperature Coefficient: ±100ppm/°C; Resistance In Ohms: 33.0K; Description: RES TF 1/10W 33K OHM 1% 0603; Tolerance: ±1%; Power (Watts): 0.1W, 1/10W; Supplier 1: Digi-Key; Supplier Part Number 1: RMC1/1633KFG-ND; Supplier Part Number: RMC1/1633KFG-ND; Lead Style: Surface Mount (SMD - SMT); Case: 0603 (1608 metric); RoHS: RoHS Compliant; Supplier: Digi-Key; Composition: Thick Film; Packaging: Tape & Reel (TR); Category: Resistors
footprint 0603R-33K (RESISTOR 0603)
pins: 1, 2

## 0603R-33K2
designator R?, comment 33K2
GENERIC RESISTOR 0603; Supplier 1: Digi-Key; Supplier Part Number 1: RMCF0603FT33K2TR-ND
footprint 0603R-GENERIC (RESISTOR 0603)
footprint 0603R-NI (RESISTOR 0603 NON INSTALLED)
pins: 1, 2

## 0603R-33R
designator R?, comment 33R
GENERIC RESISTOR 0603; Manufacturer Part Number: RMC 1/16 33 1% G; Manufacturer: Stackpole Electronics Inc; Description: RES TF 1/10W 33 OHM 1% 0603; Resistance In Ohms: 33.0; Power (Watts): 0.1W, 1/10W; Temperature Coefficient: ±100ppm/°C; Tolerance: ±1%; Reel: R18; Supplier: Digi-Key; Lead Style: Surface Mount (SMD - SMT); Composition: Thick Film; Packaging: Tape & Reel (TR); Supplier Part Number: RMC1/1633FG-ND; Case: 0603 (1608 metric); RoHS: RoHS Compliant; Category: Resistors; Supplier 1: Digi-Key; Supplier Part Number 1: RMCF0603FT33R0TR-ND
footprint 0603R-33 (RESISTOR 0603)
pins: 1, 2

## 0603R-39K
designator R?, comment 39K
GENERIC RESISTOR 0603; Manufacturer Part Number: RMC 1/16 39K 1% R; Manufacturer: Stackpole Electronics Inc; Description: RES TF 1/10W 39K OHM 1% 0603; Resistance In Ohms: 39.0K; Power (Watts): 0.1W, 1/10W; Temperature Coefficient: ±100ppm/°C; Tolerance: ±1%; REEL: R85; Supplier 1: Digi-Key; Supplier Part Number 1: RMC1/1639KFR-ND; Supplier Part Number: RMC1/1639KFR-ND; Supplier: Digi-Key; Lead Style: Surface Mount (SMD - SMT); Case: 0603 (1608 metric); Packaging: Tape & Reel (TR); RoHS: RoHS Compliant; Composition: Thick Film; Category: Resistors
footprint 0603R-39K (RESISTOR 0603)
pins: 1, 2

## 0603R-39R
designator R?, comment 39R
GENERIC RESISTOR 0603; Manufacturer: Stackpole Electronics Inc; Manufacturer Part Number: RMC 1/16 39 1% R; Temperature Coefficient: ±100ppm/°C; Description: RES TF 1/10W 39 OHM 1% 0603; Resistance In Ohms: 39.0; Power (Watts): 0.1W, 1/10W; Tolerance: ±1%; Supplier 1: Digi-Key; Supplier Part Number 1: RMC1/1639FR-ND; Supplier: Digi-Key; Supplier Part Number: RMC1/1639FR-ND; Packaging: Tape & Reel (TR); Composition: Thick Film; Lead Style: Surface Mount (SMD - SMT); Case: 0603 (1608 metric); Category: Resistors; RoHS: RoHS non-compliant
footprint 0603R-39 (RESISTOR 0603)
pins: 1, 2

## 0603R-47K
designator R?, comment 47K
GENERIC RESISTOR 0603; Manufacturer: Stackpole Electronics Inc; Manufacturer Part Number: RMC 1/16 47K 1% R; Tolerance: ±1%; Description: RES TF 1/10W 47K OHM 1% 0603; Resistance In Ohms: 47.0K; Temperature Coefficient: ±100ppm/°C; Power (Watts): 0.1W, 1/10W; REEL: R66; Supplier 1: Digi-Key; Supplier Part Number 1: RMC1/1647KFR-ND; RoHS: RoHS Compliant; Supplier: Digi-Key; Packaging: Tape & Reel (TR); Composition: Thick Film; Case: 0603 (1608 metric); Supplier Part Number: RMC1/1647KFR-ND; Lead Style: Surface Mount (SMD - SMT); Category: Resistors
footprint 0603R-47K (RESISTOR 0603)
pins: 1, 2

## 0603R-47R
designator R?, comment 47R
GENERIC RESISTOR 0603; Manufacturer Part Number: RMC 1/16 47 1% R; Manufacturer: Stackpole Electronics Inc; Power (Watts): 0.1W, 1/10W; Temperature Coefficient: ±100ppm/°C; Resistance In Ohms: 47.0; Description: RES TF 1/10W 47 OHM 1% 0603; Tolerance: ±1%; Supplier 1: Digi-Key; Supplier Part Number 1: RMC1/1647FR-ND; Supplier Part Number: RMC1/1647FR-ND; Category: Resistors; Case: 0603 (1608 metric); Packaging: Tape & Reel (TR); Lead Style: Surface Mount (SMD - SMT); RoHS: RoHS Compliant; Supplier: Digi-Key; Composition: Thick Film
footprint 0603R-47 (RESISTOR 0603)
pins: 1, 2

## 0603R-49R9
designator R?, comment 49R9
GENERIC RESISTOR 0603; Supplier 1: Digi-Key; Supplier Part Number 1: RMCF0603FT49R9TR-ND
footprint 0603R-GENERIC (RESISTOR 0603)
footprint 0603R-NI (RESISTOR 0603 NON INSTALLED)
pins: 1, 2

## 0603R-51K1
designator R?, comment 51K1
GENERIC RESISTOR 0603; Supplier 1: Digi-Key; Supplier Part Number 1: RMCF0603FT51K1CT-ND
footprint 0603R-GENERIC (RESISTOR 0603)
footprint 0603R-NI (RESISTOR 0603 NON INSTALLED)
pins: 1, 2

## 0603R-54R9
designator R?, comment 54R9
GENERIC RESISTOR 0603; Manufacturer Part Number: RMCF 1/16 15K 1% R; Manufacturer: Stackpole Electronics Inc; Tolerance: ±1%; Resistance In Ohms: 15.0K; Power (Watts): 0.1W, 1/10W; Temperature Coefficient: ±100ppm/°C; Description: RES 15K OHM 1/10W 1% 0603 SMD; Supplier 1: Digi-Key; Supplier Part Number 1: RMCF1/1615KFRTR-ND; Supplier: Digi-Key; Supplier Part Number: RMCF1/1615KFRTR-ND; Packaging: Tape & Reel (TR); Category: Resistors; Case: 0603 (1608 metric); Composition: Thick Film; Lead Style: Surface Mount (SMD - SMT); RoHS: RoHS Compliant
footprint 0603R-GENERIC (RESISTOR 0603)
pins: 1, 2

## 0603R-56K
designator R?, comment 56K
GENERIC RESISTOR 0603; Manufacturer Part Number: RMC 1/16 56K 1% R; Manufacturer: Stackpole Electronics Inc; Tolerance: ±1%; Power (Watts): 0.1W, 1/10W; Temperature Coefficient: ±100ppm/°C; Resistance In Ohms: 56.0K; Description: RES TF 1/10W 56K OHM 1% 0603; Supplier 1: Digi-Key; Supplier Part Number 1: RMC1/1656KFR-ND; Packaging: Tape & Reel (TR); Composition: Thick Film; Case: 0603 (1608 metric); Supplier: Digi-Key; RoHS: RoHS Compliant; Lead Style: Surface Mount (SMD - SMT); Supplier Part Number: RMC1/1656KFR-ND; Category: Resistors
footprint 0603R-56K (RESISTOR 0603)
pins: 1, 2

## 0603R-56R
designator R?, comment 56R
GENERIC RESISTOR 0603; Manufacturer: Stackpole Electronics Inc; Manufacturer Part Number: RMC 1/16 56 1% R; Resistance In Ohms: 56.0; Description: RES TF 1/10W 56 OHM 1% 0603; Power (Watts): 0.1W, 1/10W; Temperature Coefficient: ±100ppm/°C; Tolerance: ±1%; Supplier 1: Digi-Key; Supplier Part Number 1: RMC1/1656FR-ND; Category: Resistors; Case: 0603 (1608 metric); Supplier Part Number: RMC1/1656FR-ND; Lead Style: Surface Mount (SMD - SMT); Composition: Thick Film; Packaging: Tape & Reel (TR); Supplier: Digi-Key; RoHS: RoHS non-compliant
footprint 0603R-56 (RESISTOR 0603)
pins: 1, 2

## 0603R-60K4
designator R?, comment 60K4
GENERIC RESISTOR 0603; Supplier 1: Digi-Key; Supplier Part Number 1: RMCF0603FG60K4-ND
footprint 0603R-GENERIC (RESISTOR 0603)
footprint 0603R-NI (RESISTOR 0603 NON INSTALLED)
pins: 1, 2

## 0603R-68K
designator R?, comment 68K
GENERIC RESISTOR 0603; Manufacturer: Stackpole Electronics Inc; Manufacturer Part Number: RMC 1/16 68K 1% R; Description: RES TF 1/10W 68K OHM 1% 0603; Tolerance: ±1%; Power (Watts): 0.1W, 1/10W; Resistance In Ohms: 68.0K; Temperature Coefficient: ±100ppm/°C; Supplier 1: Digi-Key; Supplier Part Number 1: RMC1/1668KFR-ND; Packaging: Tape & Reel (TR); Case: 0603 (1608 metric); RoHS: RoHS non-compliant; Lead Style: Surface Mount (SMD - SMT); Supplier: Digi-Key; Category: Resistors; Supplier Part Number: RMC1/1668KFR-ND; Composition: Thick Film
footprint 0603R-68K (RESISTOR 0603)
pins: 1, 2

## 0603R-68R
designator R?, comment 68R
GENERIC RESISTOR 0603; Manufacturer: Stackpole Electronics Inc; Manufacturer Part Number: RMC 1/16 68 1% R; Temperature Coefficient: ±100ppm/°C; Description: RES TF 1/10W 68 OHM 1% 0603; Power (Watts): 0.1W, 1/10W; Tolerance: ±1%; Resistance In Ohms: 68.0; Supplier 1: Digi-Key; Supplier Part Number 1: RMC1/1668FR-ND; Case: 0603 (1608 metric); Category: Resistors; RoHS: RoHS Compliant; Composition: Thick Film; Supplier Part Number: RMC1/1668FR-ND; Supplier: Digi-Key; Packaging: Tape & Reel (TR); Lead Style: Surface Mount (SMD - SMT)
footprint 0603R-68 (RESISTOR 0603)
pins: 1, 2

## 0603R-82K
designator R?, comment 82K
GENERIC RESISTOR 0603; Manufacturer Part Number: RMC 1/16 82K 1% G; Manufacturer: Stackpole Electronics Inc; Description: RES TF 1/10W 82K OHM 1% 0603; Temperature Coefficient: ±100ppm/°C; Power (Watts): 0.1W, 1/10W; Resistance In Ohms: 82.0K; Tolerance: ±1%; Supplier 1: Digi-Key; Supplier Part Number 1: RMC1/1682KFG-ND; Supplier Part Number: RMC1/1682KFG-ND; RoHS: RoHS Compliant; Supplier: Digi-Key; Lead Style: Surface Mount (SMD - SMT); Composition: Thick Film; Packaging: Tape & Reel (TR); Case: 0603 (1608 metric); Category: Resistors
footprint 0603R-82K (RESISTOR 0603)
pins: 1, 2

## 0603R-82R
designator R?, comment 82R
GENERIC RESISTOR 0603; Manufacturer: Stackpole Electronics Inc; Manufacturer Part Number: RMC 1/16 82 1% R; Temperature Coefficient: ±100ppm/°C; Power (Watts): 0.1W, 1/10W; Resistance In Ohms: 82.0; Description: RES TF 1/10W 82 OHM 1% 0603; Tolerance: ±1%; Supplier 1: Digi-Key; Supplier Part Number 1: RMC1/1682FR-ND; Supplier: Digi-Key; Lead Style: Surface Mount (SMD - SMT); Packaging: Tape & Reel (TR); Supplier Part Number: RMC1/1682FR-ND; Composition: Thick Film; RoHS: RoHS non-compliant; Case: 0603 (1608 metric); Category: Resistors
footprint 0603R-82 (RESISTOR 0603)
pins: 1, 2

## 0603R-91K
designator R16, comment 91K
GENERIC RESISTOR 0603; Supplier 1: Digi-Key; Supplier Part Number 1: P91.0KHCT-ND
footprint 0603R-GENERIC (RESISTOR 0603)
pins: 1, 2

## 0603R-100
designator R?, comment 100R
GENERIC RESISTOR 0603; Manufacturer Part Number: RMCF 1/16 100 1% R; Manufacturer: Stackpole Electronics Inc; Description: RES 100 OHM 1/10W 1% 0603 SMD; Reel: R24; Supplier 1: Digi-Key; Supplier Part Number 1: RMCF1/16100FRDKR-ND
footprint 0603R-100 (RESISTOR 0603)
pins: 1, 2

## 0603R-100K
designator R?, comment 100K
GENERIC RESISTOR 0603; Manufacturer Part Number: RMCF 1/16 100K 1% R; Manufacturer: Stackpole Electronics Inc; Tolerance: ±1%; Power (Watts): 0.1W, 1/10W; Description: RES 100K OHM 1/10W 1% 0603 SMD; Temperature Coefficient: ±100ppm/°C; REEL: R47; Case: 0603 (1608 metric); Resistance In Ohms: 100K; RoHS: RoHS Compliant; Composition: Thick Film; Lead Style: Surface Mount (SMD - SMT); Supplier: Digi-Key; Supplier Part Number: RMCF1/16100KFRCT-ND; Category: Resistors; Packaging: Cut Tape (CT); Supplier 1: Digi-Key; Supplier Part Number 1: RMCF0603FT100KTR-ND
footprint 0603R-100K (RESISTOR 0603)
pins: 1, 2

## 0603R-120
designator R?, comment 120R
GENERIC RESISTOR 0603; Manufacturer Part Number: RMC 1/16 120 1% R; Manufacturer: Stackpole Electronics Inc; Power (Watts): 0.1W, 1/10W; Description: RES TF 1/10W 120 OHM 1% 0603; Temperature Coefficient: ±100ppm/°C; Tolerance: ±1%; Resistance In Ohms: 120; Supplier 1: Digi-Key; Supplier Part Number 1: RMC1/16120FR-ND; RoHS: RoHS non-compliant; Composition: Thick Film; Supplier: Digi-Key; Lead Style: Surface Mount (SMD - SMT); Packaging: Tape & Reel (TR); Supplier Part Number: RMC1/16120FR-ND; Case: 0603 (1608 metric); Category: Resistors
footprint 0603R-120 (RESISTOR 0603)
pins: 1, 2

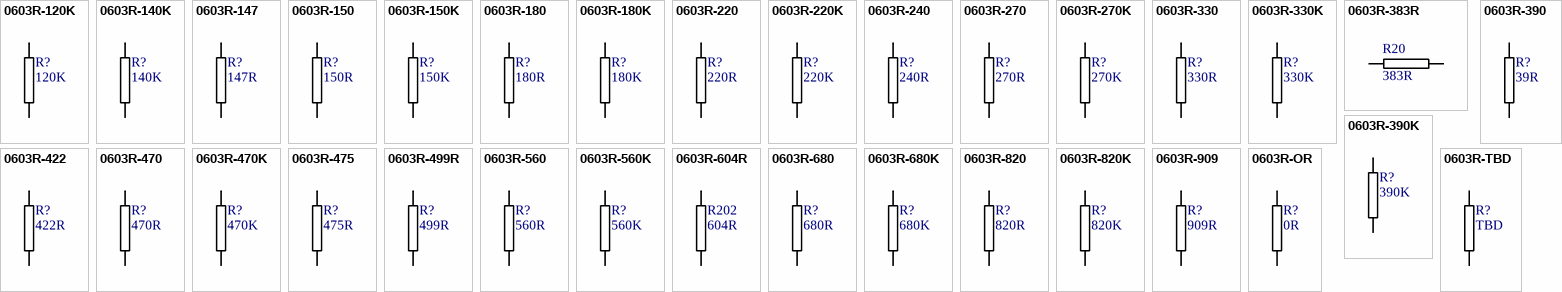
[diagram p2: symbols 0603R-120K to 0603R-TBD]

## 0603R-120K
designator R?, comment 120K
GENERIC RESISTOR 0603; Manufacturer: Stackpole Electronics Inc; Manufacturer Part Number: RMCF 1/16 120K 1% R; Temperature Coefficient: ±100ppm/°C; Description: RES 120K OHM 1/10W 1% 0603 SMD; Power (Watts): 0.1W, 1/10W; Tolerance: ±1%; Supplier 1: Digi-Key; Supplier Part Number 1: RMCF1/16120KFR-ND; Lead Style: Surface Mount (SMD - SMT); RoHS: RoHS Compliant; Supplier Part Number: RMCF1/16120KFR-ND; Case: 0603 (1608 metric); Category: Resistors; Resistance In Ohms: 120K; Supplier: Digi-Key; Composition: Thick Film; Packaging: Tape & Reel (TR)
footprint 0603R-120K (RESISTOR 0603)
pins: 1, 2

## 0603R-140K
designator R?, comment 140K
GENERIC RESISTOR 0603; Manufacturer Part Number: RMC 1/16 140K 1% R; Manufacturer: Stackpole Electronics Inc; Description: RES TF 1/10W 140K OHM 1% 0603; Power (Watts): 0.1W, 1/10W; Tolerance: ±1%; Temperature Coefficient: ±100ppm/°C; Supplier 1: Digi-Key; Supplier Part Number 1: RMC1/16140KFR-ND; Resistance In Ohms: 140K; Supplier: Digi-Key; RoHS: RoHS non-compliant; Category: Resistors; Supplier Part Number: RMC1/16140KFR-ND; Composition: Thick Film; Lead Style: Surface Mount (SMD - SMT); Packaging: Tape & Reel (TR); Case: 0603 (1608 metric)
footprint 0603R-GENERIC (RESISTOR 0603)
footprint 0603R-NI (RESISTOR 0603 NON INSTALLED)
pins: 1, 2

## 0603R-147
designator R?, comment 147R
GENERIC RESISTOR 0603; Manufacturer: Stackpole Electronics Inc; Manufacturer Part Number: RMC 1/16 147 1% G; Description: RES TF 1/10W 147 OHM 1% 0603; Supplier 1: Digi-Key; Supplier Part Number 1: RMC1/16147FG-ND
footprint 0603R-147 (Footprint not found)
pins: 1, 2

## 0603R-150
designator R?, comment 150R
GENERIC RESISTOR 0603; Manufacturer Part Number: RMCF 1/16 150 1% R; Manufacturer: Stackpole Electronics Inc; Resistance In Ohms: 150; Power (Watts): 0.1W, 1/10W; Temperature Coefficient: ±100ppm/°C; Description: RES 150 OHM 1/10W 1% 0603 SMD; Tolerance: ±1%; Supplier 1: Digi-Key; Supplier Part Number 1: RMCF1/16150FRDKR-ND; Packaging: Digi-Reel®; Supplier Part Number: RMCF1/16150FRDKR-ND; Composition: Thick Film; Supplier: Digi-Key; RoHS: RoHS Compliant; Category: Resistors; Case: 0603 (1608 metric); Lead Style: Surface Mount (SMD - SMT)
footprint 0603R-150 (RESISTOR 0603)
pins: 1, 2

## 0603R-150K
designator R?, comment 150K
GENERIC RESISTOR 0603; Manufacturer: Stackpole Electronics Inc; Manufacturer Part Number: RMCF 1/16 150K 1% R; Power (Watts): 0.1W, 1/10W; Tolerance: ±1%; Description: RES 150K OHM 1/10W 1% 0603 SMD; Temperature Coefficient: ±100ppm/°C; Supplier 1: Digi-Key; Supplier Part Number 1: RMCF1/16150KFRTR-ND; Resistance In Ohms: 150K; Supplier: Digi-Key; Lead Style: Surface Mount (SMD - SMT); Supplier Part Number: RMCF1/16150KFRTR-ND; Composition: Thick Film; RoHS: RoHS Compliant; Packaging: Tape & Reel (TR); Case: 0603 (1608 metric); Category: Resistors
footprint 0603R-150K (RESISTOR 0603)
pins: 1, 2

## 0603R-180
designator R?, comment 180R
GENERIC RESISTOR 0603; Manufacturer Part Number: RMC 1/16 180 1% R; Manufacturer: Stackpole Electronics Inc; Tolerance: ±1%; Resistance In Ohms: 180; Temperature Coefficient: ±100ppm/°C; Description: RES TF 1/10W 180 OHM 1% 0603; Power (Watts): 0.1W, 1/10W; Supplier 1: Digi-Key; Supplier Part Number 1: RMC1/16180FR-ND; Case: 0603 (1608 metric); Supplier: Digi-Key; RoHS: RoHS Compliant; Composition: Thick Film; Supplier Part Number: RMC1/16180FR-ND; Lead Style: Surface Mount (SMD - SMT); Category: Resistors; Packaging: Tape & Reel (TR)
footprint 0603R-180 (RESISTOR 0603)
pins: 1, 2

## 0603R-180K
designator R?, comment 180K
GENERIC RESISTOR 0603; Manufacturer Part Number: RMC 1/16 180K 1% R; Manufacturer: Stackpole Electronics Inc; Temperature Coefficient: ±100ppm/°C; Description: RES TF 1/10W 180K OHM 1% 0603; Power (Watts): 0.1W, 1/10W; Tolerance: ±1%; Supplier 1: Digi-Key; Supplier Part Number 1: RMC1/16180KFR-ND; Packaging: Tape & Reel (TR); Category: Resistors; Lead Style: Surface Mount (SMD - SMT); Supplier: Digi-Key; Composition: Thick Film; Supplier Part Number: RMC1/16180KFR-ND; Case: 0603 (1608 metric); Resistance In Ohms: 180K; RoHS: RoHS non-compliant
footprint 0603R-180K (RESISTOR 0603)
pins: 1, 2

## 0603R-220
designator R?, comment 220R
GENERIC RESISTOR 0603; Manufacturer: Stackpole Electronics Inc; Manufacturer Part Number: RMCF 1/16 220 1% R; Resistance In Ohms: 220; Power (Watts): 0.1W, 1/10W; Description: RES 220 OHM 1/10W 1% 0603 SMD; Tolerance: ±1%; Temperature Coefficient: ±100ppm/°C; Supplier 1: Digi-Key; Supplier Part Number 1: RMCF1/16220FRCT-ND; Lead Style: Surface Mount (SMD - SMT); Case: 0603 (1608 metric); RoHS: RoHS Compliant; Supplier: Digi-Key; Packaging: Cut Tape (CT); Composition: Thick Film; Supplier Part Number: RMCF1/16220FRCT-ND; Category: Resistors
footprint 0603R-220 (RESISTOR 0603)
pins: 1, 2

## 0603R-220K
designator R?, comment 220K
GENERIC RESISTOR 0603; Manufacturer: Stackpole Electronics Inc; Manufacturer Part Number: RMCF 1/16 220K 1% R; Description: RES 220K OHM 1/10W 1% 0603 SMD; Power (Watts): 0.1W, 1/10W; Temperature Coefficient: ±100ppm/°C; Tolerance: ±1%; Supplier 1: Digi-Key; Supplier Part Number 1: RMCF1/16220KFR-ND; RoHS: RoHS Compliant; Composition: Thick Film; Lead Style: Surface Mount (SMD - SMT); Resistance In Ohms: 220K; Supplier: Digi-Key; Supplier Part Number: RMCF1/16220KFR-ND; Packaging: Tape & Reel (TR); Category: Resistors; Case: 0603 (1608 metric)
footprint 0603R-220K (RESISTOR 0603)
pins: 1, 2

## 0603R-240
designator R?, comment 240R
GENERIC RESISTOR 0603; Manufacturer Part Number: RMCF 1/16 15K 1% R; Manufacturer: Stackpole Electronics Inc; Tolerance: ±1%; Resistance In Ohms: 15.0K; Power (Watts): 0.1W, 1/10W; Temperature Coefficient: ±100ppm/°C; Description: RES 15K OHM 1/10W 1% 0603 SMD; Supplier 1: Digi-Key; Supplier Part Number 1: RMCF1/1615KFRTR-ND; Supplier: Digi-Key; Supplier Part Number: RMCF1/1615KFRTR-ND; Packaging: Tape & Reel (TR); Category: Resistors; Case: 0603 (1608 metric); Composition: Thick Film; Lead Style: Surface Mount (SMD - SMT); RoHS: RoHS Compliant
footprint 0603R-GENERIC (RESISTOR 0603)
pins: 1, 2

## 0603R-270
designator R?, comment 270R
GENERIC RESISTOR 0603; Manufacturer Part Number: RMCF 1/16 270 1% R; Manufacturer: Stackpole Electronics Inc; Power (Watts): 0.1W, 1/10W; Resistance In Ohms: 270; Description: RES 270 OHM 1/10W 1% 0603 SMD; Tolerance: ±1%; Temperature Coefficient: ±100ppm/°C; Supplier 1: Digi-Key; Supplier Part Number 1: RMCF1/16270FR-ND; RoHS: RoHS Compliant; Lead Style: Surface Mount (SMD - SMT); Case: 0603 (1608 metric); Composition: Thick Film; Supplier: Digi-Key; Category: Resistors; Supplier Part Number: RMCF1/16270FR-ND; Packaging: Tape & Reel (TR)
footprint 0603R-270 (RESISTOR 0603)
pins: 1, 2

## 0603R-270K
designator R?, comment 270K
GENERIC RESISTOR 0603; Manufacturer: Stackpole Electronics Inc; Manufacturer Part Number: RMCF 1/16 270K 1% R; Temperature Coefficient: ±100ppm/°C; Power (Watts): 0.1W, 1/10W; Tolerance: ±1%; Description: RES 270K OHM 1/10W 1% 0603 SMD; Supplier 1: Digi-Key; Supplier Part Number 1: RMCF1/16270KFR-ND; RoHS: RoHS Compliant; Case: 0603 (1608 metric); Packaging: Tape & Reel (TR); Lead Style: Surface Mount (SMD - SMT); Composition: Thick Film; Supplier Part Number: RMCF1/16270KFR-ND; Supplier: Digi-Key; Category: Resistors; Resistance In Ohms: 270K
footprint 0603R-270K (RESISTOR 0603)
pins: 1, 2

## 0603R-330
designator R?, comment 330R
GENERIC RESISTOR 0603; Manufacturer Part Number: RMCF 1/16 330 1% R; Manufacturer: Stackpole Electronics Inc; Power (Watts): 0.1W, 1/10W; Tolerance: ±1%; Resistance In Ohms: 330; Temperature Coefficient: ±100ppm/°C; Description: RES 330 OHM 1/10W 1% 0603 SMD; Supplier 1: Digi-Key; Supplier Part Number 1: RMCF1/16330FRCT-ND; RoHS: RoHS Compliant; Packaging: Cut Tape (CT); Supplier: Digi-Key; Case: 0603 (1608 metric); Lead Style: Surface Mount (SMD - SMT); Supplier Part Number: RMCF1/16330FRCT-ND; Composition: Thick Film; Category: Resistors
footprint 0603R-330 (RESISTOR 0603)
pins: 1, 2

## 0603R-330K
designator R?, comment 330K
GENERIC RESISTOR 0603; Manufacturer: Stackpole Electronics Inc; Manufacturer Part Number: RMCF 1/16 330K 1% R; Temperature Coefficient: ±100ppm/°C; Power (Watts): 0.1W, 1/10W; Description: RES 330K OHM 1/10W 1% 0603 SMD; Tolerance: ±1%; Supplier 1: Digi-Key; Supplier Part Number 1: RMCF1/16330KFRCT-ND; Resistance In Ohms: 330K; Supplier Part Number: RMCF1/16330KFRCT-ND; Packaging: Cut Tape (CT); RoHS: RoHS Compliant; Composition: Thick Film; Supplier: Digi-Key; Lead Style: Surface Mount (SMD - SMT); Category: Resistors; Case: 0603 (1608 metric)
footprint 0603R-330K (RESISTOR 0603)
pins: 1, 2

## 0603R-383R
designator R20, comment 383R
GENERIC RESISTOR 0603; Supplier 1: Digi-Key; Supplier Part Number 1: P383HCT-ND
footprint 0603R-GENERIC (RESISTOR 0603)
pins: 1, 2

## 0603R-390
designator R?, comment 39R
GENERIC RESISTOR 0603; Manufacturer: Stackpole Electronics Inc; Manufacturer Part Number: RMC 1/16 390 1% R; Tolerance: ±1%; Power (Watts): 0.1W, 1/10W; Resistance In Ohms: 390; Temperature Coefficient: ±100ppm/°C; Description: RES TF 1/10W 390 OHM 1% 0603; Supplier 1: Digi-Key; Supplier Part Number 1: RMC1/16390FR-ND; Supplier: Digi-Key; Packaging: Tape & Reel (TR); Composition: Thick Film; RoHS: RoHS non-compliant; Case: 0603 (1608 metric); Supplier Part Number: RMC1/16390FR-ND; Category: Resistors; Lead Style: Surface Mount (SMD - SMT)
footprint 0603R-390 (RESISTOR 0603)
pins: 1, 2

## 0603R-390K
designator R?, comment 390K
GENERIC RESISTOR 0603; Manufacturer Part Number: RMC 1/16 390K 1% G; Manufacturer: Stackpole Electronics Inc; Power (Watts): 0.1W, 1/10W; Description: RES TF 1/10W 390K OHM 1% 0603; Tolerance: ±1%; Temperature Coefficient: ±100ppm/°C; Supplier 1: Digi-Key; Supplier Part Number 1: RMC1/16390KFG-ND; Category: Resistors; Supplier Part Number: RMC1/16390KFG-ND; RoHS: RoHS Compliant; Resistance In Ohms: 390K; Lead Style: Surface Mount (SMD - SMT); Composition: Thick Film; Packaging: Tape & Reel (TR); Supplier: Digi-Key; Case: 0603 (1608 metric)
footprint 0603R-390K (RESISTOR 0603)
pins: 1, 2

## 0603R-422
designator R?, comment 422R
GENERIC RESISTOR 0603; Manufacturer Part Number: RMCF 1/16 15K 1% R; Manufacturer: Stackpole Electronics Inc; Tolerance: ±1%; Resistance In Ohms: 15.0K; Power (Watts): 0.1W, 1/10W; Temperature Coefficient: ±100ppm/°C; Description: RES 15K OHM 1/10W 1% 0603 SMD; Supplier 1: Digi-Key; Supplier Part Number 1: RMCF1/1615KFRTR-ND; Supplier: Digi-Key; Supplier Part Number: RMCF1/1615KFRTR-ND; Packaging: Tape & Reel (TR); Category: Resistors; Case: 0603 (1608 metric); Composition: Thick Film; Lead Style: Surface Mount (SMD - SMT); RoHS: RoHS Compliant
footprint 0603R-GENERIC (RESISTOR 0603)
pins: 1, 2

## 0603R-470
designator R?, comment 470R
GENERIC RESISTOR 0603; Manufacturer Part Number: RMCF 1/16 470 1% R; Manufacturer: Stackpole Electronics Inc; Tolerance: ±1%; Power (Watts): 0.1W, 1/10W; Temperature Coefficient: ±100ppm/°C; Resistance In Ohms: 470; Description: RES 470 OHM 1/10W 1% 0603 SMD; Reel: R17; Supplier 1: Digi-Key; Supplier Part Number 1: RMCF1/16470FRTR-ND; Supplier: Digi-Key; Composition: Thick Film; Packaging: Tape & Reel (TR); Lead Style: Surface Mount (SMD - SMT); Category: Resistors; RoHS: RoHS Compliant; Supplier Part Number: RMCF1/16470FRTR-ND; Case: 0603 (1608 metric)
footprint 0603R-470 (RESISTOR 0603)
pins: 1, 2